# Altium schematic symbol library mod_display.SchLib: 6 symbols
Pins are listed as number, name and electrical type; pins without a type are passive.

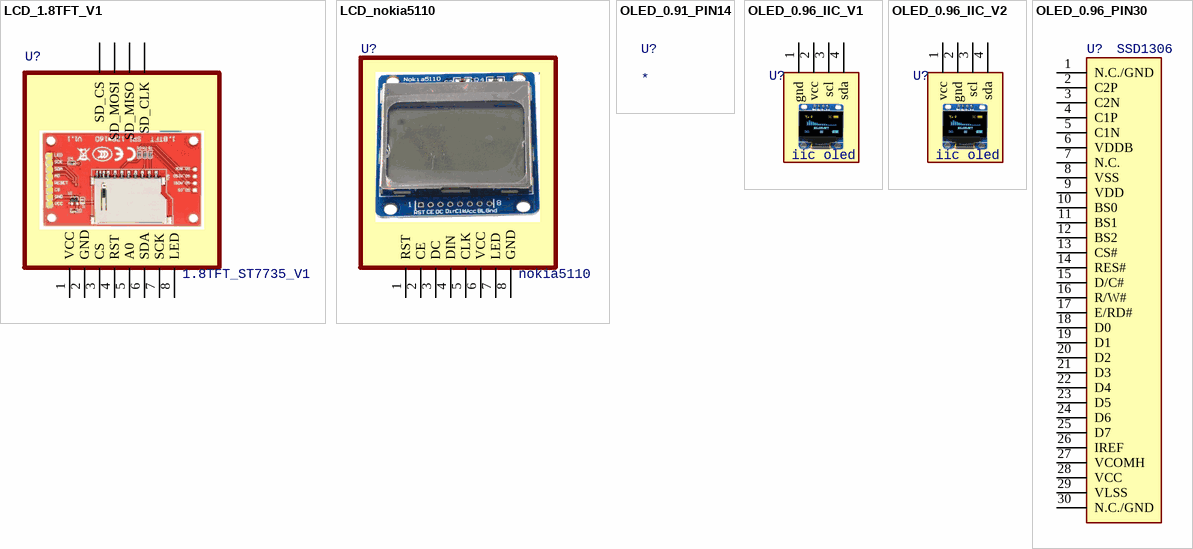
[diagram p0: symbols LCD_1.8TFT_V1 to OLED_0.96_PIN30]

## LCD_1.8TFT_V1
designator U?, comment 1.8TFT_ST7735_V1
ST7735 1.8''TFT
footprint LCD_1.8TFT
pins: 1 VCC, 2 GND, 3 CS, 4 RST, 5 A0, 6 SDA, 7 SCK, 8 LED, A1 SD_CS, A2 SD_MOSI, A3 SD_MISO, A4 SD_CLK

## LCD_nokia5110
designator U?, comment nokia5110
nokia5110 LCD module
footprint LCD_NOKIA5110_R (RED VERSION)
footprint LCD_NOKIA5110_B (BLUE VERSION)
pins: 1 RST, 2 CE, 3 DC, 4 DIN, 5 CLK, 6 VCC, 7 LED, 8 GND

## OLED_0.91_PIN14
designator U?
0.91 inch oled screen with 14 pins

## OLED_0.96_IIC_V1
designator U?, comment iic oled
footprint OLED_IIC_MOD
pins: 1 gnd, 2 vcc, 3 scl, 4 sda

## OLED_0.96_IIC_V2
designator U?, comment iic oled
footprint OLED_IIC_MOD
pins: 1 vcc, 2 gnd, 3 scl, 4 sda

## OLED_0.96_PIN30
designator U?, comment SSD1306
0.96 inch oled screen with 30 pins
footprint OLED_SSD1306_30P
pins: 1 N.C./GND, 2 C2P, 3 C2N, 4 C1P, 5 C1N, 6 VDDB, 7 N.C., 8 VSS, 9 VDD, 10 BS0, 11 BS1, 12 BS2, 13 CS#, 14 RES#, 15 D/C#, 16 R/W#, 17 E/RD#, 18 D0, 19 D1, 20 D2, 21 D3, 22 D4, 23 D5, 24 D6, 25 D7, 26 IREF, 27 VCOMH, 28 VCC, 29 VLSS, 30 N.C./GND